# EAGLE library part HEAD_1X16 (library mechanical)
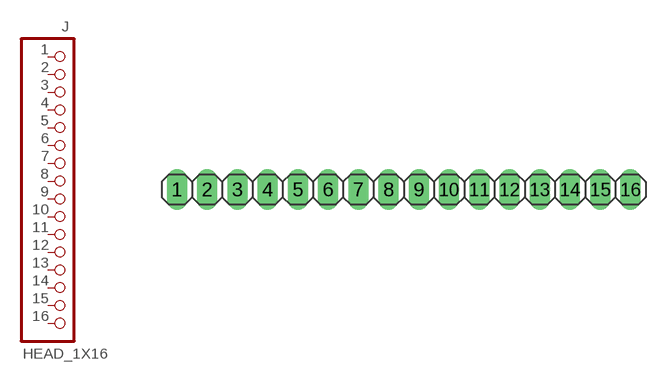
[diagram p3: symbol with the pads of HEAD_MALE_1X16; footprint HEAD_MALE_1X16]

Designator prefix J

## HEAD_1X16_MALE  [HEAD_MALE_1X16]
1  1  pas
2  2  pas
3  3  pas
4  4  pas
5  5  pas
6  6  pas
7  7  pas
8  8  pas
9  9  pas
10  10  pas
11  11  pas
12  12  pas
13  13  pas
14  14  pas
15  15  pas
16  16  pas

## Footprint HEAD_MALE_1X16 (pad centres in mm)
PIN HEADER
drill 1 pad 1.7 long: 1 -19.05,0; 2 -16.51,0; 3 -13.97,0; 4 -11.43,0; 5 -8.89,0; 6 -6.35,0; 7 -3.81,0; 8 -1.27,0; 9 1.27,0; 10 3.81,0; 11 6.35,0; 12 8.89,0; 13 11.43,0; 14 13.97,0; 15 16.51,0; 16 19.05,0